# Altium footprint library Fiducials.PcbLib: 2 footprints
Each footprint in its own frame and in the unit in brackets; x right, y up, seen from the top. Pads: shape width x height; smd on the part's side, far side on the other; paste and mask are expansions set on the pad; w line width, h text height; cw(c..) or ccw(c..) is an arc to the next point about the centre after c.
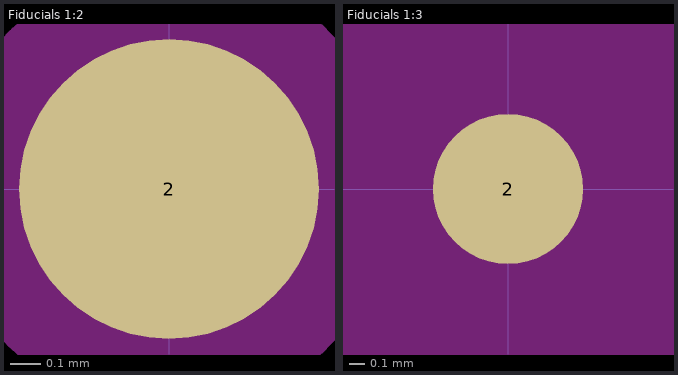
[diagram p0: the footprints below, top view; thin cyan lines are the x and y axes]

## Fiducials 1:2 [mm]
pads (1):
  round 1 smd mask+0.3: 2(0,0)
Top Layer keep-out:
  circle w0.5: c0,0 r0.5

## Fiducials 1:3 [mm]
pads (1):
  round 1 smd mask+1: 2(0,0)
Top Layer keep-out:
  circle w4: c0,0 r1